# Altium footprint library SOP50P640X120-38N.PcbLib: 1 footprints
Each footprint in its own frame and in the unit in brackets; x right, y up, seen from the top. Pads: shape width x height; smd on the part's side, far side on the other; paste and mask are expansions set on the pad; w line width, h text height; cw(c..) or ccw(c..) is an arc to the next point about the centre after c.
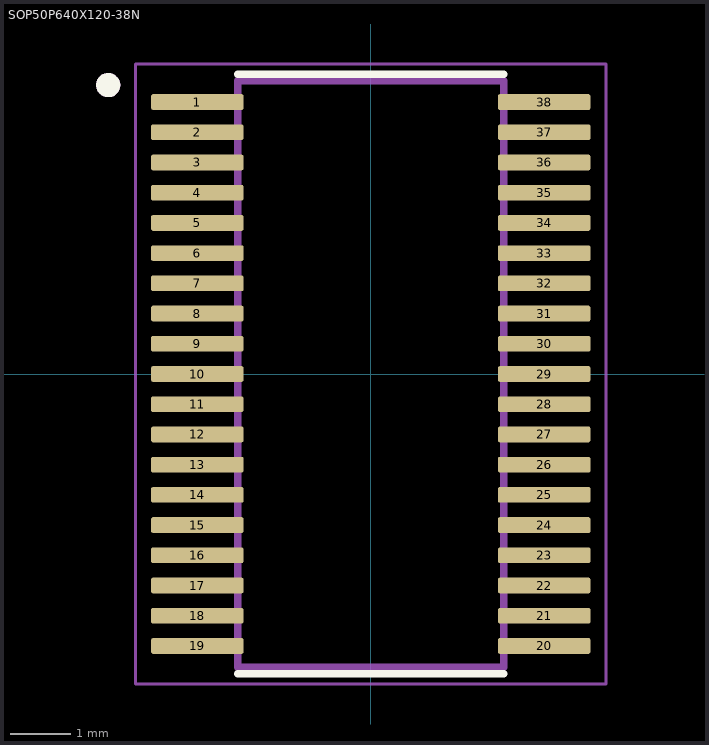
[diagram p0: the footprint, top view; thin cyan lines are the x and y axes]

## SOP50P640X120-38N [mm]
pads (38):
  rrect25% 1.53x0.26 smd: 1(-2.87,4.5) 2(-2.87,4) 3(-2.87,3.5) 4(-2.87,3) 5(-2.87,2.5) 6(-2.87,2) 7(-2.87,1.5) 8(-2.87,1) 9(-2.87,0.5) 10(-2.87,0) 11(-2.87,-0.5) 12(-2.87,-1) 13(-2.87,-1.5) 14(-2.87,-2) 15(-2.87,-2.5) 16(-2.87,-3) 17(-2.87,-3.5) 18(-2.87,-4) 19(-2.87,-4.5) 20(2.87,-4.5) 21(2.87,-4) 22(2.87,-3.5) 23(2.87,-3) 24(2.87,-2.5) 25(2.87,-2) 26(2.87,-1.5) 27(2.87,-1) 28(2.87,-0.5) 29(2.87,0) 30(2.87,0.5) 31(2.87,1) 32(2.87,1.5) 33(2.87,2) 34(2.87,2.5) 35(2.87,3) 36(2.87,3.5) 37(2.87,4) 38(2.87,4.5)
Top Overlay:
  circle w0.2: c-4.345,4.78 r0.1
  lines w0.127: -2.2,-4.96 2.2,-4.96 ; -2.2,4.96 2.2,4.96
Mechanical 13:
  circle w0.2: c-4.345,4.78 r0.1
  lines w0.127: -2.2,-4.85 2.2,-4.85 2.2,4.85 -2.2,4.85 -2.2,-4.85
Mechanical 15:
  lines w0.05: -3.89,-5.13 3.89,-5.13 3.89,5.13 -3.89,5.13 -3.89,-5.13
3D body "step_temp.STEP": height 1.2, standoff 0, extent -3.2,-4.85 3.2,4.85